# EAGLE library part LM339 (library mylib)
LM339 voltage comparator with open collector outputs
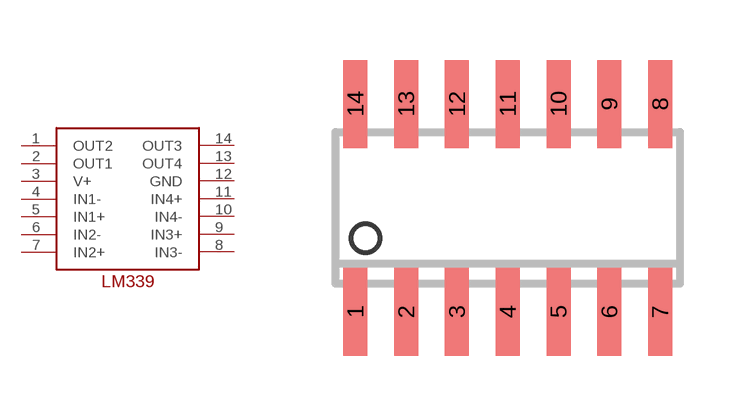
[diagram p7: symbol with the pads of SO14; footprint SO14]

Designator prefix -

## LM339  [SO14]
1  OUT2
2  OUT1
3  V+
4  IN1-
5  IN1+
6  IN2-
7  IN2+
8  IN3-
9  IN3+
10  IN4-
11  IN4+
12  GND
13  OUT4
14  OUT3

## Footprint SO14 (pad centres in mm)
Small Outline Package 14
smd 0.6 x 2.2: 1 -3.81,-2.6; 2 -2.54,-2.6; 3 -1.27,-2.6; 4 0,-2.6; 5 1.27,-2.6; 6 2.54,-2.6; 7 3.81,-2.6; 8 3.81,2.6; 9 2.54,2.6; 10 1.27,2.6; 11 0,2.6; 12 -1.27,2.6; 13 -2.54,2.6; 14 -3.81,2.6